# EAGLE library part CON-MOLEX_47654 (library toyotune)
Molex 47654-0001 Micro USB AB Mid Mount Receptacle
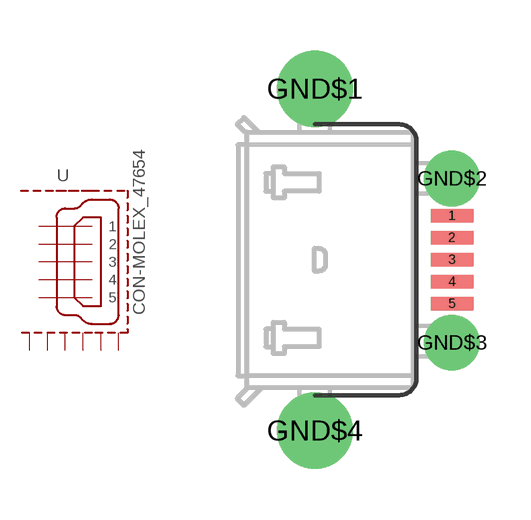
[diagram p31: symbol with the pads of CON-MOLEX_47654; footprint CON-MOLEX_47654]

Designator prefix -

## CON-MOLEX_47654  [CON-MOLEX_47654]
1  1  in
2  2  in
3  3  in
4  4  in
5  5  in
GND$1  GND1
GND$2  GND2
GND$3  GND3
GND$4  GND4

## Footprint CON-MOLEX_47654 (pad centres in mm)
smd 1.25 x 0.4: 1 4.05,1.3; 2 4.05,0.65; 3 4.05,0; 4 4.05,-0.65; 5 4.05,-1.3
drill 1.5 pad 2: GND$1 0,5.05; GND$4 0,-5.05
drill 1.1 pad 1.5: GND$2 4.05,2.4; GND$3 4.05,-2.45